# Altium schematic symbol library ADG918BCPZ.SchLib: 1 symbol
Pins are listed as number, name and electrical type; pins without a type are passive.

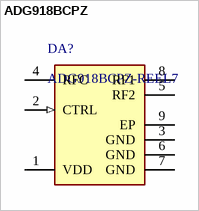
[diagram p0: symbol ADG918BCPZ]

## ADG918BCPZ
designator DA?, comment ADG918BCPZ-REEL7
RF Switch, Wideband 4 GHz, 43 dB Isolation at 1 GHz, CMOS 1.65 V to 2.75 V, 2:1 Mux/SPDT, CP-8-2, Pb-Free, 1500 Reel; Configuration: SPDT/NO-NC; Bandwidth: 4GHz; # Sw Functions: 1; Supply Voltage: Single (+1.65V to +2.75V), Single (+2.5V); Off Isolation Test Freq: 1G; P-1dB (dBm): 17; Off Isolation: 43dB; Insertion Loss (dB): 800mdB; PackageDescription: 8-Lead Lead Frame Chip Scale Package [LFCSP_VD]; DatasheetVersion: RevC; ComponentLink3URL: http://www.analog.com/static/imported-files/packages/56953322593982CP_8_2.pdf; ComponentLink2URL: http://www.analog.com/static/imported-files/data_sheets/ADG918_919.pdf; ComponentLink2Description: Datasheet; ComponentLink1Description: Manufacturer URL; PackageVersion: 061507-B; PackageReference: CP-8-2; ComponentLink3Description: Package Specification; ComponentLink1URL: www.analog.com
footprint ADI-CP-8-2_M (SON, 8-Leads, Body 3x3mm, Pitch 0.5mm, Thermal Pad 1.75x1.45mm, IPC Low Density)
footprint ADI-CP-8-2_L (SON, 8-Leads, Body 3x3mm, Pitch 0.5mm, Thermal Pad 1.75x1.45mm, IPC High Density)
footprint ADI-CP-8-2_N (SON, 8-Leads, Body 3x3mm, Pitch 0.5mm, Thermal Pad 1.75x1.45mm, IPC Medium Density)
pins: 1 VDD (power) "Power Supply Input. These parts can be operated from 1.65 V to 2.75 V, and VDD should be decoupled to GND.", 2 CTRL (in) "Logic Control Input. See Table 4.", 3 GND (power) "Ground Reference Point for All Circuitry on the Part.", 4 RFC "COMMON RF Port for Switch.", 5 RF2 "RF2 Port.", 6 GND (power) "Ground Reference Point for All Circuitry on the Part.", 7 GND (power) "Ground Reference Point for All Circuitry on the Part.", 8 RF1 "RF1 Port.", 9 EP (power) "Exposed Pad"